# Altium integrated library Altera Arria V GZ.IntLib: 32 symbols (part 30 of 36)
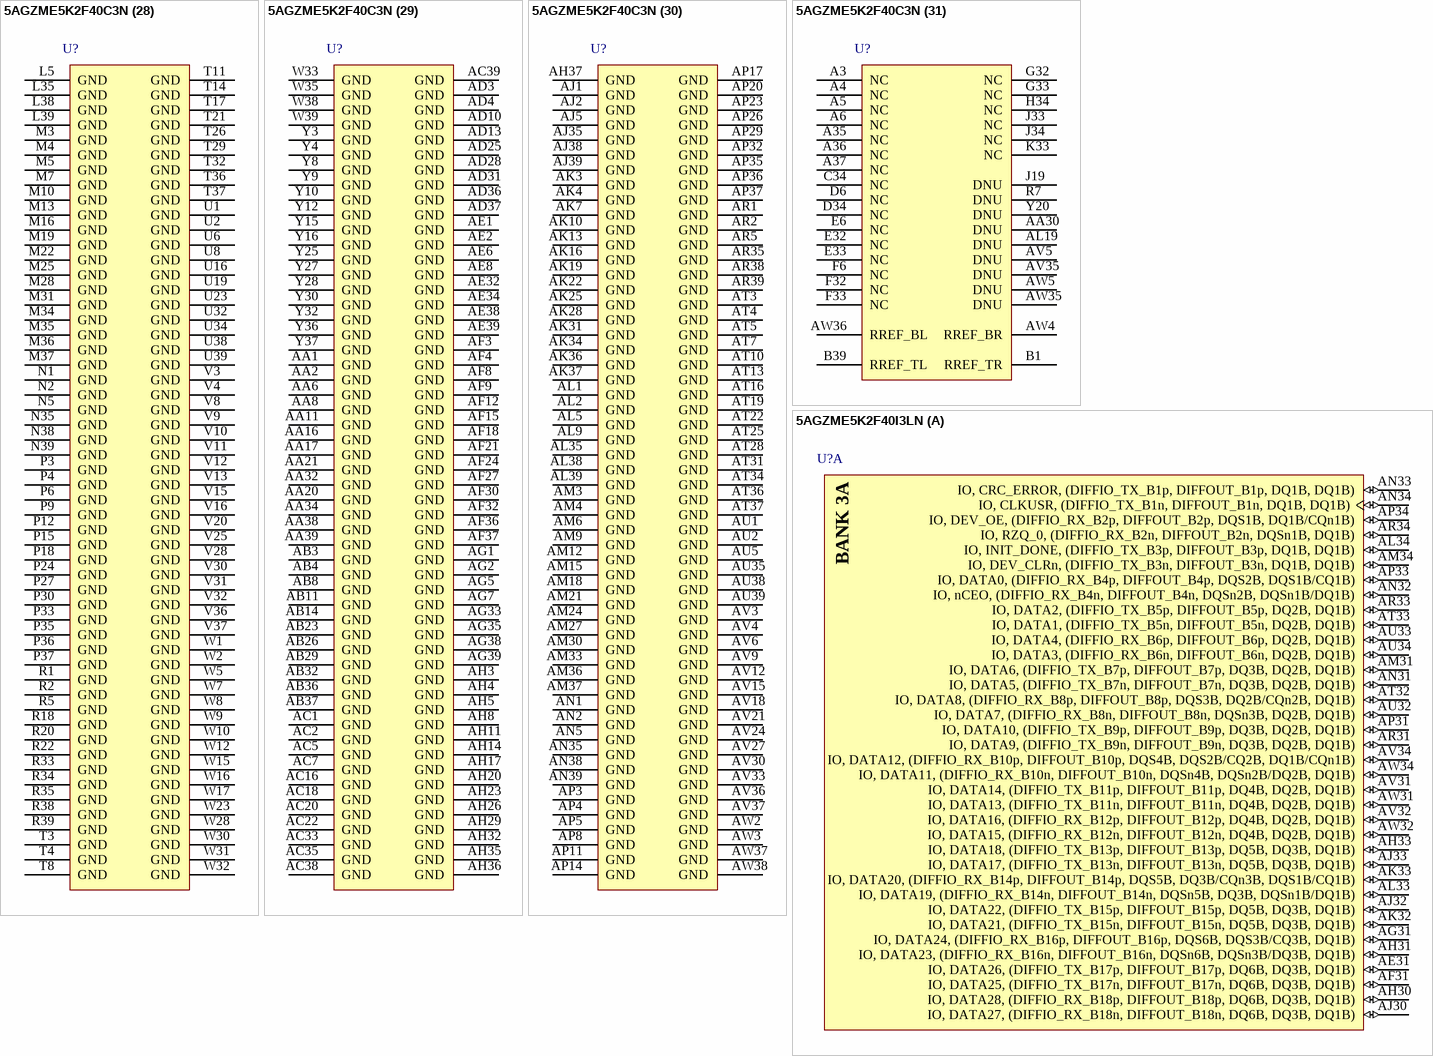
[diagram p226: symbols 5AGZME5K2F40C3N to 5AGZME5K2F40I3LN]

## 5AGZME5K2F40C3N (continued)
part P pins: A20 IO, (DIFFIO_TX_T132n, DIFFOUT_T132n, DQ44T, DQ16T, DQ8T, DQ4T) (io), A22 IO, (DIFFIO_RX_T143n, DIFFOUT_T143n, DQSn48T, DQ18T, DQ9T, DQ4T) (io), A23 IO, (DIFFIO_TX_T144n, DIFFOUT_T144n, DQ48T, DQ18T, DQ9T, DQ4T) (io), B20 IO, (DIFFIO_TX_T132p, DIFFOUT_T132p, DQ44T, DQ16T, DQ8T, DQ4T) (io), B22 IO, (DIFFIO_RX_T143p, DIFFOUT_T143p, DQS48T, DQ18T/CQn18T, DQ9T, DQ4T) (io), B23 IO, (DIFFIO_TX_T144p, DIFFOUT_T144p, DQ48T, DQ18T, DQ9T, DQ4T) (io), C20 IO, (DIFFIO_TX_T130p, DIFFOUT_T130p, DQ44T, DQ16T, DQ8T, DQ4T) (io), C21 IO, (DIFFIO_TX_T130n, DIFFOUT_T130n, DQ44T, DQ16T, DQ8T, DQ4T) (io), C22 IO, (DIFFIO_TX_T142p, DIFFOUT_T142p, DQ48T, DQ18T, DQ9T, DQ4T) (io), D21 IO, (DIFFIO_RX_T131n, DIFFOUT_T131n, DQSn44T, DQ16T, DQ8T, DQSn4T/DQ4T) (io), D22 IO, (DIFFIO_TX_T142n, DIFFOUT_T142n, DQ48T, DQ18T, DQ9T, DQ4T) (io), E20 IO, (DIFFIO_RX_T127n, DIFFOUT_T127n, DQ43T, DQ16T, DQ8T, DQ4T) (io), E21 IO, (DIFFIO_RX_T131p, DIFFOUT_T131p, DQS44T, DQ16T/CQn16T, DQ8T, DQS4T/CQ4T) (io), E23 IO, (DIFFIO_RX_T141n, DIFFOUT_T141n, DQSn47T, DQSn18T/DQ18T, DQ9T, DQ4T) (io), F20 IO, (DIFFIO_RX_T127p, DIFFOUT_T127p, DQ43T, DQ16T, DQ8T, DQ4T) (io), F21 IO, (DIFFIO_RX_T129n, DIFFOUT_T129n, DQSn43T, DQSn16T/DQ16T, DQ8T, DQ4T) (io), F23 IO, (DIFFIO_RX_T141p, DIFFOUT_T141p, DQS47T, DQS18T/CQ18T, DQ9T/CQn9T, DQ4T) (io), G20 IO, (DIFFIO_TX_T128n, DIFFOUT_T128n, DQ43T, DQ16T, DQ8T, DQ4T) (io), G21 IO, (DIFFIO_RX_T129p, DIFFOUT_T129p, DQS43T, DQS16T/CQ16T, DQ8T/CQn8T, DQ4T) (io), G22 IO, (DIFFIO_TX_T140n, DIFFOUT_T140n, DQ47T, DQ18T, DQ9T, DQ4T) (io), G23 IO, (DIFFIO_RX_T139n, DIFFOUT_T139n, DQ47T, DQ18T, DQ9T, DQ4T) (io), H20 IO, (DIFFIO_TX_T128p, DIFFOUT_T128p, DQ43T, DQ16T, DQ8T, DQ4T) (io), H22 IO, (DIFFIO_TX_T140p, DIFFOUT_T140p, DQ47T, DQ18T, DQ9T, DQ4T) (io), H23 IO, (DIFFIO_RX_T139p, DIFFOUT_T139p, DQ47T, DQ18T, DQ9T, DQ4T) (io), J21 IO, (DIFFIO_RX_T121n, DIFFOUT_T121n, DQ41T, DQ15T, DQ8T, DQ4T) (io), J22 IO, (DIFFIO_RX_T123n, DIFFOUT_T123n, DQSn41T, DQSn15T/DQ15T, DQ8T, DQ4T) (io), J23 IO, CLK16p, (DIFFIO_RX_T135p, DIFFOUT_T135p, DQS45T, DQS17T/CQ17T, DQ9T, DQ4T/CQn4T) (io), J24 IO, CLK16n, (DIFFIO_RX_T135n, DIFFOUT_T135n, DQSn45T, DQSn17T/DQ17T, DQ9T, DQ4T) (io), K21 IO, (DIFFIO_RX_T121p, DIFFOUT_T121p, DQ41T, DQ15T, DQ8T, DQ4T) (io), K22 IO, (DIFFIO_RX_T123p, DIFFOUT_T123p, DQS41T, DQS15T/CQ15T, DQ8T, DQ4T) (io), K24 IO, (DIFFIO_TX_T134n, DIFFOUT_T134n, DQ45T, DQ17T, DQ9T, DQ4T) (io), L20 IO, (DIFFIO_TX_T122n, DIFFOUT_T122n, DQ41T, DQ15T, DQ8T, DQ4T) (io), L21 IO, (DIFFIO_TX_T124n, DIFFOUT_T124n, DQ42T, DQ15T, DQ8T, DQ4T) (io), L23 IO, CLK17n, (DIFFIO_RX_T133n, DIFFOUT_T133n, DQ45T, DQ17T, DQ9T, DQ4T) (io), L24 IO, (DIFFIO_TX_T134p, DIFFOUT_T134p, DQ45T, DQ17T, DQ9T, DQ4T) (io), M20 IO, (DIFFIO_TX_T122p, DIFFOUT_T122p, DQ41T, DQ15T, DQ8T, DQ4T) (io), M21 IO, (DIFFIO_TX_T124p, DIFFOUT_T124p, DQ42T, DQ15T, DQ8T, DQ4T) (io), M23 IO, CLK17p, (DIFFIO_RX_T133p, DIFFOUT_T133p, DQ45T, DQ17T, DQ9T, DQ4T) (io), M24 IO, (DIFFIO_RX_T137n, DIFFOUT_T137n, DQSn46T, DQ17T, DQSn9T/DQ9T, DQ4T) (io), N20 IO, (DIFFIO_TX_T126p, DIFFOUT_T126p, DQ42T, DQ15T, DQ8T, DQ4T) (io), N21 IO, (DIFFIO_TX_T126n, DIFFOUT_T126n, DQ42T, DQ15T, DQ8T, DQ4T) (io), N22 IO, (DIFFIO_RX_T125n, DIFFOUT_T125n, DQSn42T, DQ15T, DQSn8T/DQ8T, DQ4T) (io), N23 IO, (DIFFIO_TX_T136n, DIFFOUT_T136n, DQ46T, DQ17T, DQ9T, DQ4T) (io), N24 IO, (DIFFIO_RX_T137p, DIFFOUT_T137p, DQS46T, DQ17T/CQn17T, DQS9T/CQ9T, DQ4T) (io), P22 IO, (DIFFIO_RX_T125p, DIFFOUT_T125p, DQS42T, DQ15T/CQn15T, DQS8T/CQ8T, DQ4T) (io), P23 IO, (DIFFIO_TX_T136p, DIFFOUT_T136p, DQ46T, DQ17T, DQ9T, DQ4T) (io), R24 IO, (DIFFIO_TX_T138n, DIFFOUT_T138n, DQ46T, DQ17T, DQ9T, DQ4T) (io), T24 IO, (DIFFIO_TX_T138p, DIFFOUT_T138p, DQ46T, DQ17T, DQ9T, DQ4T) (io)
part Q pins: AD33 REFCLK1Lp (in), AD34 REFCLK1Ln (in), AF34 REFCLK0Lp (in), AF35 REFCLK0Ln (in), AG36 GXB_TX_L5p (out), AG37 GXB_TX_L5n (out), AH38 GXB_RX_L5p, GXB_REFCLK_L5p (in), AH39 GXB_RX_L5n, GXB_REFCLK_L5n (in), AJ36 GXB_TX_L4p (out), AJ37 GXB_TX_L4n (out), AK38 GXB_RX_L4p, GXB_REFCLK_L4p (in), AK39 GXB_RX_L4n, GXB_REFCLK_L4n (in), AL36 GXB_TX_L3p (out), AL37 GXB_TX_L3n (out), AM38 GXB_RX_L3p, GXB_REFCLK_L3p (in), AM39 GXB_RX_L3n, GXB_REFCLK_L3n (in), AN36 GXB_TX_L2p (out), AN37 GXB_TX_L2n (out), AP38 GXB_RX_L2p, GXB_REFCLK_L2p (in), AP39 GXB_RX_L2n, GXB_REFCLK_L2n (in), AR36 GXB_TX_L1p (out), AR37 GXB_TX_L1n (out), AT38 GXB_RX_L1p, GXB_REFCLK_L1p (in), AT39 GXB_RX_L1n, GXB_REFCLK_L1n (in), AU36 GXB_TX_L0p (out), AU37 GXB_TX_L0n (out), AV38 GXB_RX_L0p, GXB_REFCLK_L0p (in), AV39 GXB_RX_L0n, GXB_REFCLK_L0n (in)
part R pins: AA36 GXB_TX_L8p (out), AA37 GXB_TX_L8n (out), AB34 REFCLK2Lp (in), AB35 REFCLK2Ln (in), AB38 GXB_RX_L8p, GXB_REFCLK_L8p (in), AB39 GXB_RX_L8n, GXB_REFCLK_L8n (in), AC36 GXB_TX_L7p (out), AC37 GXB_TX_L7n (out), AD38 GXB_RX_L7p, GXB_REFCLK_L7p (in), AD39 GXB_RX_L7n, GXB_REFCLK_L7n (in), AE36 GXB_TX_L6p (out), AE37 GXB_TX_L6n (out), AF38 GXB_RX_L6p, GXB_REFCLK_L6p (in), AF39 GXB_RX_L6n, GXB_REFCLK_L6n (in), R36 GXB_TX_L11p (out), R37 GXB_TX_L11n (out), T38 GXB_RX_L11p, GXB_REFCLK_L11p (in), T39 GXB_RX_L11n, GXB_REFCLK_L11n (in), U36 GXB_TX_L10p (out), U37 GXB_TX_L10n (out), V38 GXB_RX_L10p, GXB_REFCLK_L10p (in), V39 GXB_RX_L10n, GXB_REFCLK_L10n (in), W36 GXB_TX_L9p (out), W37 GXB_TX_L9n (out), Y33 REFCLK3Lp (in), Y34 REFCLK3Ln (in), Y38 GXB_RX_L9p, GXB_REFCLK_L9p (in), Y39 GXB_RX_L9n, GXB_REFCLK_L9n (in)
part S pins: C36 GXB_TX_L17p (out), C37 GXB_TX_L17n (out), D38 GXB_RX_L17p, GXB_REFCLK_L17p (in), D39 GXB_RX_L17n, GXB_REFCLK_L17n (in), E36 GXB_TX_L16p (out), E37 GXB_TX_L16n (out), F38 GXB_RX_L16p, GXB_REFCLK_L16p (in), F39 GXB_RX_L16n, GXB_REFCLK_L16n (in), G36 GXB_TX_L15p (out), G37 GXB_TX_L15n (out), H38 GXB_RX_L15p, GXB_REFCLK_L15p (in), H39 GXB_RX_L15n, GXB_REFCLK_L15n (in), J36 GXB_TX_L14p (out), J37 GXB_TX_L14n (out), K38 GXB_RX_L14p, GXB_REFCLK_L14p (in), K39 GXB_RX_L14n, GXB_REFCLK_L14n (in), L36 GXB_TX_L13p (out), L37 GXB_TX_L13n (out), M38 GXB_RX_L13p, GXB_REFCLK_L13p (in), M39 GXB_RX_L13n, GXB_REFCLK_L13n (in), N36 GXB_TX_L12p (out), N37 GXB_TX_L12n (out), P38 GXB_RX_L12p, GXB_REFCLK_L12p (in), P39 GXB_RX_L12n, GXB_REFCLK_L12n (in), T33 REFCLK5Lp (in), T34 REFCLK5Ln (in), V34 REFCLK4Lp (in), V35 REFCLK4Ln (in)
part T pins: AD6 REFCLK1Rn (in), AD7 REFCLK1Rp (in), AF5 REFCLK0Rn (in), AF6 REFCLK0Rp (in), AG3 GXB_TX_R5n (out), AG4 GXB_TX_R5p (out), AH1 GXB_RX_R5n, GXB_REFCLK_R5n (in), AH2 GXB_RX_R5p, GXB_REFCLK_R5p (in), AJ3 GXB_TX_R4n (out), AJ4 GXB_TX_R4p (out), AK1 GXB_RX_R4n, GXB_REFCLK_R4n (in), AK2 GXB_RX_R4p, GXB_REFCLK_R4p (in), AL3 GXB_TX_R3n (out), AL4 GXB_TX_R3p (out), AM1 GXB_RX_R3n, GXB_REFCLK_R3n (in), AM2 GXB_RX_R3p, GXB_REFCLK_R3p (in), AN3 GXB_TX_R2n (out), AN4 GXB_TX_R2p (out), AP1 GXB_RX_R2n, GXB_REFCLK_R2n (in), AP2 GXB_RX_R2p, GXB_REFCLK_R2p (in), AR3 GXB_TX_R1n (out), AR4 GXB_TX_R1p (out), AT1 GXB_RX_R1n, GXB_REFCLK_R1n (in), AT2 GXB_RX_R1p, GXB_REFCLK_R1p (in), AU3 GXB_TX_R0n (out), AU4 GXB_TX_R0p (out), AV1 GXB_RX_R0n, GXB_REFCLK_R0n (in), AV2 GXB_RX_R0p, GXB_REFCLK_R0p (in)
part U pins: AA3 GXB_TX_R8n (out), AA4 GXB_TX_R8p (out), AB1 GXB_RX_R8n, GXB_REFCLK_R8n (in), AB2 GXB_RX_R8p, GXB_REFCLK_R8p (in), AB5 REFCLK2Rn (in), AB6 REFCLK2Rp (in), AC3 GXB_TX_R7n (out), AC4 GXB_TX_R7p (out), AD1 GXB_RX_R7n, GXB_REFCLK_R7n (in), AD2 GXB_RX_R7p, GXB_REFCLK_R7p (in), AE3 GXB_TX_R6n (out), AE4 GXB_TX_R6p (out), AF1 GXB_RX_R6n, GXB_REFCLK_R6n (in), AF2 GXB_RX_R6p, GXB_REFCLK_R6p (in), R3 GXB_TX_R11n (out), R4 GXB_TX_R11p (out), T1 GXB_RX_R11n, GXB_REFCLK_R11n (in), T2 GXB_RX_R11p, GXB_REFCLK_R11p (in), U3 GXB_TX_R10n (out), U4 GXB_TX_R10p (out), V1 GXB_RX_R10n, GXB_REFCLK_R10n (in), V2 GXB_RX_R10p, GXB_REFCLK_R10p (in), W3 GXB_TX_R9n (out), W4 GXB_TX_R9p (out), Y1 GXB_RX_R9n, GXB_REFCLK_R9n (in), Y2 GXB_RX_R9p, GXB_REFCLK_R9p (in), Y6 REFCLK3Rn (in), Y7 REFCLK3Rp (in)
part V pins: C3 GXB_TX_R17n (out), C4 GXB_TX_R17p (out), D1 GXB_RX_R17n, GXB_REFCLK_R17n (in), D2 GXB_RX_R17p, GXB_REFCLK_R17p (in), E3 GXB_TX_R16n (out), E4 GXB_TX_R16p (out), F1 GXB_RX_R16n, GXB_REFCLK_R16n (in), F2 GXB_RX_R16p, GXB_REFCLK_R16p (in), G3 GXB_TX_R15n (out), G4 GXB_TX_R15p (out), H1 GXB_RX_R15n, GXB_REFCLK_R15n (in), H2 GXB_RX_R15p, GXB_REFCLK_R15p (in), J3 GXB_TX_R14n (out), J4 GXB_TX_R14p (out), K1 GXB_RX_R14n, GXB_REFCLK_R14n (in), K2 GXB_RX_R14p, GXB_REFCLK_R14p (in), L3 GXB_TX_R13n (out), L4 GXB_TX_R13p (out), M1 GXB_RX_R13n, GXB_REFCLK_R13n (in), M2 GXB_RX_R13p, GXB_REFCLK_R13p (in), N3 GXB_TX_R12n (out), N4 GXB_TX_R12p (out), P1 GXB_RX_R12n, GXB_REFCLK_R12n (in), P2 GXB_RX_R12p, GXB_REFCLK_R12p (in), T6 REFCLK5Rn (in), T7 REFCLK5Rp (in), V5 REFCLK4Rn (in), V6 REFCLK4Rp (in)
part W pins: AA9 MSEL0 (in), AA10 MSEL1 (in), AA31 TCK (in), AB31 AS_DATA0, ASDO (io), AC8 nCE (in), AC31 DCLK (io), AC32 AS_DATA2 (io), AD8 MSEL2 (in), AD32 nCSO (out), AG8 MSEL3 (in), AG32 AS_DATA3 (io), AH6 CONF_DONE (io), AH7 MSEL4 (in), AH34 TDO (out), AJ34 TDI (in), AK5 nIO_PULLUP (in), AK35 nCONFIG (in), AM5 nSTATUS (io), AM35 ~{TRST} (in), AT35 TMS (in), P5 TEMPDIODEn (in), R6 TEMPDIODEp (in), Y31 AS_DATA1 (io)
part X pins: A9 VCCIO7B (power), A12 VCCIO7C (power), A15 VCCIO7C (power), A18 VCCIO7D (power), A21 VCCIO8D (power), A24 VCCIO8C (power), A27 VCCIO8C (power), A30 VCCIO8B (power), A33 VCCIO8A (power), AA18 VCC (power), AA19 VCC (power), AA22 VCC (power), AA23 VCC (power), AB17 VCC (power), AB18 VCC (power), AB19 VCC (power), AB20 VCC (power), AB21 VCC (power), AB22 VCC (power), AC17 VCC (power), AC19 VCC (power), AC21 VCC (power), AC23 VCC (power), AU13 VCCIO4C (power), AU19 VCCIO4D (power), AU22 VCCIO3D (power), AU28 VCCIO3B (power), AU31 VCCIO3A (power), AW6 VCCIO4A (power), AW9 VCCIO4B (power), AW12 VCCIO4B (power), AW15 VCCIO4C (power), AW18 VCCIO4D (power), AW21 VCCIO3D (power), AW24 VCCIO3C (power), AW27 VCCIO3C (power), AW30 VCCIO3B (power), AW33 VCCIO3A (power), C6 VCCIO7A (power), C11 VCCIO7B (power), C17 VCCIO7D (power), C23 VCCIO8D (power), C29 VCCIO8B (power), C32 VCCIO8A (power), R17 VCC (power), R19 VCC (power), R21 VCC (power), R23 VCC (power), T18 VCC (power), T19 VCC (power), T20 VCC (power), T22 VCC (power), T23 VCC (power), U17 VCC (power), U18 VCC (power), U20 VCC (power), U21 VCC (power), U22 VCC (power), V17 VCC (power), V18 VCC (power), V19 VCC (power), V21 VCC (power), V22 VCC (power), V23 VCC (power), W18 VCC (power), W19 VCC (power), W20 VCC (power), W21 VCC (power), W22 VCC (power), Y17 VCC (power), Y18 VCC (power), Y19 VCC (power), Y21 VCC (power), Y22 VCC (power), Y23 VCC (power)
part Y pins: AC11 VCCD_FPLL (power), AC29 VCCD_FPLL (power), AD11 VCCA_FPLL (power), AD19 VCCPT (power), AD29 VCCA_FPLL (power), AE13 VCCPT (power), AE28 VCCPT (power), AF20 VCCD_FPLL (power), AG11 VCC_AUX (power), AG20 VCCA_FPLL (power), AG29 VCC_AUX (power), AJ8 VREFB4AN0 (power), AJ9 VCCPGM (power), AJ11 VREFB4BN0 (power), AJ14 VREFB4CN0 (power), AJ16 VREFB4DN0 (power), AJ23 VREFB3DN0 (power), AJ25 VREFB3CN0 (power), AJ28 VREFB3BN0 (power), AJ31 VREFB3AN0 (power), AK8 VCCA_FPLL (power), AK9 VCCBAT (power), AK20 VCC_AUX (power), AL8 VCCD_FPLL (power), AL31 VCCPGM (power), AL32 VCCA_FPLL (power), AM32 VCCD_FPLL (power), AR10 VCCPD4 (power), AR13 VCCPD4 (power), AR16 VCCPD4 (power), AR23 VCCPD3CD (power), AR26 VCCPD3CD (power), AR29 VCCPD3AB (power), AR32 VCCPD3AB (power), E10 VCCPD7 (power), E13 VCCPD7 (power), E16 VCCPD7 (power), E22 VCCPD8 (power), E26 VCCPD8 (power), E29 VCCPD8 (power), H8 VCCD_FPLL (power), H32 VCCD_FPLL (power), J8 VCCA_FPLL (power), J20 VCC_AUX (power), J32 VCCA_FPLL (power), L7 VREFB7AN0 (power), L10 VREFB7BN0 (power), L14 VREFB7CN0 (power), L17 VREFB7DN0 (power), L22 VREFB8DN0 (power), L25 VREFB8CN0 (power), L29 VREFB8BN0 (power), L32 VREFB8AN0 (power), N11 VCC_AUX (power), N29 VCC_AUX (power), P19 VCCPT (power), P20 VCCA_FPLL (power), P21 VCCD_FPLL (power), R13 VCCPT (power), R28 VCCPT (power), W11 VCCA_FPLL (power), W29 VCCA_FPLL (power), Y11 VCCD_FPLL (power), Y29 VCCD_FPLL (power)
part Z pins: AA5 VCCH_GXBR1 (power), AA7 VCCT_GXBR1 (power), AA24 VCCHIP_L (power), AA33 VCCT_GXBL1 (power), AA35 VCCH_GXBL1 (power), AB7 VCCT_GXBR1 (power), AB33 VCCT_GXBL1 (power), AC6 VCCR_GXBR1 (power), AC34 VCCR_GXBL1 (power), AD5 VCCA_GXBR0 (power), AD35 VCCA_GXBL0 (power), AE5 VCCH_GXBR0 (power), AE7 VCCT_GXBR0 (power), AE33 VCCT_GXBL0 (power), AE35 VCCH_GXBL0 (power), AF7 VCCT_GXBR0 (power), AF33 VCCT_GXBL0 (power), AG6 VCCR_GXBR0 (power), AG34 VCCR_GXBL0 (power), T5 VCCA_GXBR2 (power), T35 VCCA_GXBL2 (power), U5 VCCH_GXBR2 (power), U7 VCCT_GXBR2 (power), U24 VCCHIP_L (power), U33 VCCT_GXBL2 (power), U35 VCCH_GXBL2 (power), V7 VCCT_GXBR2 (power), V14 VCCHSSI_R (power), V24 VCCHIP_L (power), V26 VCCHSSI_L (power), V27 VCCHSSI_L (power), V33 VCCT_GXBL2 (power), W6 VCCR_GXBR2 (power), W13 VCCHSSI_R (power), W14 VCCHSSI_R (power), W24 VCCHIP_L (power), W25 VCCHIP_L (power), W26 VCCHSSI_L (power), W27 VCCHSSI_L (power), W34 VCCR_GXBL2 (power), Y5 VCCA_GXBR1 (power), Y13 VCCHSSI_R (power), Y14 VCCHSSI_R (power), Y24 VCCHIP_L (power), Y26 VCCHSSI_L (power), Y35 VCCA_GXBL1 (power)
part 27 pins: A2 GND (power), A38 GND (power), B2 GND (power), B3 GND (power), B4 GND (power), B5 GND (power), B6 GND (power), B9 GND (power), B12 GND (power), B15 GND (power), B18 GND (power), B21 GND (power), B24 GND (power), B27 GND (power), B30 GND (power), B33 GND (power), B35 GND (power), B36 GND (power), B37 GND (power), B38 GND (power), C1 GND (power), C2 GND (power), C5 GND (power), C35 GND (power), C38 GND (power), C39 GND (power), D3 GND (power), D4 GND (power), D5 GND (power), D8 GND (power), D11 GND (power), D14 GND (power), D17 GND (power), D20 GND (power), D23 GND (power), D26 GND (power), D29 GND (power), D32 GND (power), D35 GND (power), D36 GND (power), D37 GND (power), E1 GND (power), E2 GND (power), E5 GND (power), E35 GND (power), E38 GND (power), E39 GND (power), F3 GND (power), F4 GND (power), F5 GND (power), F7 GND (power), F10 GND (power), F13 GND (power), F16 GND (power), F19 GND (power), F22 GND (power), F25 GND (power), F28 GND (power), F31 GND (power), F34 GND (power), F35 GND (power), F36 GND (power), F37 GND (power), G1 GND (power), G2 GND (power), G5 GND (power), G35 GND (power), G38 GND (power), G39 GND (power), H3 GND (power), H4 GND (power), H5 GND (power), H6 GND (power), H9 GND (power), H12 GND (power), H15 GND (power), H18 GND (power), H21 GND (power), H24 GND (power), H27 GND (power), H30 GND (power), H33 GND (power), H35 GND (power), H36 GND (power), H37 GND (power), J1 GND (power), J2 GND (power), J5 GND (power), J35 GND (power), J38 GND (power), J39 GND (power), K3 GND (power), K4 GND (power), K5 GND (power), K8 GND (power), K11 GND (power), K14 GND (power), K17 GND (power), K20 GND (power), K23 GND (power), K26 GND (power), K29 GND (power), K32 GND (power), K35 GND (power), K36 GND (power), K37 GND (power), L1 GND (power), L2 GND (power)
part 28 pins: L5 GND (power), L35 GND (power), L38 GND (power), L39 GND (power), M3 GND (power), M4 GND (power), M5 GND (power), M7 GND (power), M10 GND (power), M13 GND (power), M16 GND (power), M19 GND (power), M22 GND (power), M25 GND (power), M28 GND (power), M31 GND (power), M34 GND (power), M35 GND (power), M36 GND (power), M37 GND (power), N1 GND (power), N2 GND (power), N5 GND (power), N35 GND (power), N38 GND (power), N39 GND (power), P3 GND (power), P4 GND (power), P6 GND (power), P9 GND (power), P12 GND (power), P15 GND (power), P18 GND (power), P24 GND (power), P27 GND (power), P30 GND (power), P33 GND (power), P35 GND (power), P36 GND (power), P37 GND (power), R1 GND (power), R2 GND (power), R5 GND (power), R18 GND (power), R20 GND (power), R22 GND (power), R33 GND (power), R34 GND (power), R35 GND (power), R38 GND (power), R39 GND (power), T3 GND (power), T4 GND (power), T8 GND (power), T11 GND (power), T14 GND (power), T17 GND (power), T21 GND (power), T26 GND (power), T29 GND (power), T32 GND (power), T36 GND (power), T37 GND (power), U1 GND (power), U2 GND (power), U6 GND (power), U8 GND (power), U16 GND (power), U19 GND (power), U23 GND (power), U32 GND (power), U34 GND (power), U38 GND (power), U39 GND (power), V3 GND (power), V4 GND (power), V8 GND (power), V9 GND (power), V10 GND (power), V11 GND (power), V12 GND (power), V13 GND (power), V15 GND (power), V16 GND (power), V20 GND (power), V25 GND (power), V28 GND (power), V30 GND (power), V31 GND (power), V32 GND (power), V36 GND (power), V37 GND (power), W1 GND (power), W2 GND (power), W5 GND (power), W7 GND (power), W8 GND (power), W9 GND (power), W10 GND (power), W12 GND (power), W15 GND (power), W16 GND (power), W17 GND (power), W23 GND (power), W28 GND (power), W30 GND (power), W31 GND (power), W32 GND (power)
part 29 pins: AA1 GND (power), AA2 GND (power), AA6 GND (power), AA8 GND (power), AA11 GND (power), AA16 GND (power), AA17 GND (power), AA20 GND (power), AA21 GND (power), AA32 GND (power), AA34 GND (power), AA38 GND (power), AA39 GND (power), AB3 GND (power), AB4 GND (power), AB8 GND (power), AB11 GND (power), AB14 GND (power), AB23 GND (power), AB26 GND (power), AB29 GND (power), AB32 GND (power), AB36 GND (power), AB37 GND (power), AC1 GND (power), AC2 GND (power), AC5 GND (power), AC7 GND (power), AC16 GND (power), AC18 GND (power), AC20 GND (power), AC22 GND (power), AC33 GND (power), AC35 GND (power), AC38 GND (power), AC39 GND (power), AD3 GND (power), AD4 GND (power), AD10 GND (power), AD13 GND (power), AD25 GND (power), AD28 GND (power), AD31 GND (power), AD36 GND (power), AD37 GND (power), AE1 GND (power), AE2 GND (power), AE6 GND (power), AE8 GND (power), AE32 GND (power), AE34 GND (power), AE38 GND (power), AE39 GND (power), AF3 GND (power), AF4 GND (power), AF8 GND (power), AF9 GND (power), AF12 GND (power), AF15 GND (power), AF18 GND (power), AF21 GND (power), AF24 GND (power), AF27 GND (power), AF30 GND (power), AF32 GND (power), AF36 GND (power), AF37 GND (power), AG1 GND (power), AG2 GND (power), AG5 GND (power), AG7 GND (power), AG33 GND (power), AG35 GND (power), AG38 GND (power), AG39 GND (power), AH3 GND (power), AH4 GND (power), AH5 GND (power), AH8 GND (power), AH11 GND (power), AH14 GND (power), AH17 GND (power), AH20 GND (power), AH23 GND (power), AH26 GND (power), AH29 GND (power), AH32 GND (power), AH35 GND (power), AH36 GND (power), W33 GND (power), W35 GND (power), W38 GND (power), W39 GND (power), Y3 GND (power), Y4 GND (power), Y8 GND (power), Y9 GND (power), Y10 GND (power), Y12 GND (power), Y15 GND (power), Y16 GND (power), Y25 GND (power), Y27 GND (power), Y28 GND (power), Y30 GND (power), Y32 GND (power), Y36 GND (power), Y37 GND (power)
part 30 pins: AH37 GND (power), AJ1 GND (power), AJ2 GND (power), AJ5 GND (power), AJ35 GND (power), AJ38 GND (power), AJ39 GND (power), AK3 GND (power), AK4 GND (power), AK7 GND (power), AK10 GND (power), AK13 GND (power), AK16 GND (power), AK19 GND (power), AK22 GND (power), AK25 GND (power), AK28 GND (power), AK31 GND (power), AK34 GND (power), AK36 GND (power), AK37 GND (power), AL1 GND (power), AL2 GND (power), AL5 GND (power), AL9 GND (power), AL35 GND (power), AL38 GND (power), AL39 GND (power), AM3 GND (power), AM4 GND (power), AM6 GND (power), AM9 GND (power), AM12 GND (power), AM15 GND (power), AM18 GND (power), AM21 GND (power), AM24 GND (power), AM27 GND (power), AM30 GND (power), AM33 GND (power), AM36 GND (power), AM37 GND (power), AN1 GND (power), AN2 GND (power), AN5 GND (power), AN35 GND (power), AN38 GND (power), AN39 GND (power), AP3 GND (power), AP4 GND (power), AP5 GND (power), AP8 GND (power), AP11 GND (power), AP14 GND (power), AP17 GND (power), AP20 GND (power), AP23 GND (power), AP26 GND (power), AP29 GND (power), AP32 GND (power), AP35 GND (power), AP36 GND (power), AP37 GND (power), AR1 GND (power), AR2 GND (power), AR5 GND (power), AR35 GND (power), AR38 GND (power), AR39 GND (power), AT3 GND (power), AT4 GND (power), AT5 GND (power), AT7 GND (power), AT10 GND (power), AT13 GND (power), AT16 GND (power), AT19 GND (power), AT22 GND (power), AT25 GND (power), AT28 GND (power), AT31 GND (power), AT34 GND (power), AT36 GND (power), AT37 GND (power), AU1 GND (power), AU2 GND (power), AU5 GND (power), AU35 GND (power), AU38 GND (power), AU39 GND (power), AV3 GND (power), AV4 GND (power), AV6 GND (power), AV9 GND (power), AV12 GND (power), AV15 GND (power), AV18 GND (power), AV21 GND (power), AV24 GND (power), AV27 GND (power), AV30 GND (power), AV33 GND (power), AV36 GND (power), AV37 GND (power), AW2 GND (power), AW3 GND (power), AW37 GND (power), AW38 GND (power)
part 31 pins: A3 NC, A4 NC, A5 NC, A6 NC, A35 NC, A36 NC, A37 NC, AA30 DNU, AL19 DNU, AV5 DNU, AV35 DNU, AW4 RREF_BR, AW5 DNU, AW35 DNU, AW36 RREF_BL, B1 RREF_TR, B39 RREF_TL, C34 NC, D6 NC, D34 NC, E6 NC, E32 NC, E33 NC, F6 NC, F32 NC, F33 NC, G32 NC, G33 NC, H34 NC, J19 DNU, J33 NC, J34 NC, K33 NC, R7 DNU, Y20 DNU
part A text: BANK 3A
part B text: BANK 3B
part C text: BANK 3C
part D text: BANK 3D
part E text: BANK 4A
part F text: BANK 4B
part G text: BANK 4C
part H text: BANK 4D
part I text: BANK 7A
part J text: BANK 7B
part K text: BANK 7C
part L text: BANK 7D
part M text: BANK 8A
part N text: BANK 8B
part O text: BANK 8C
part P text: BANK 8D

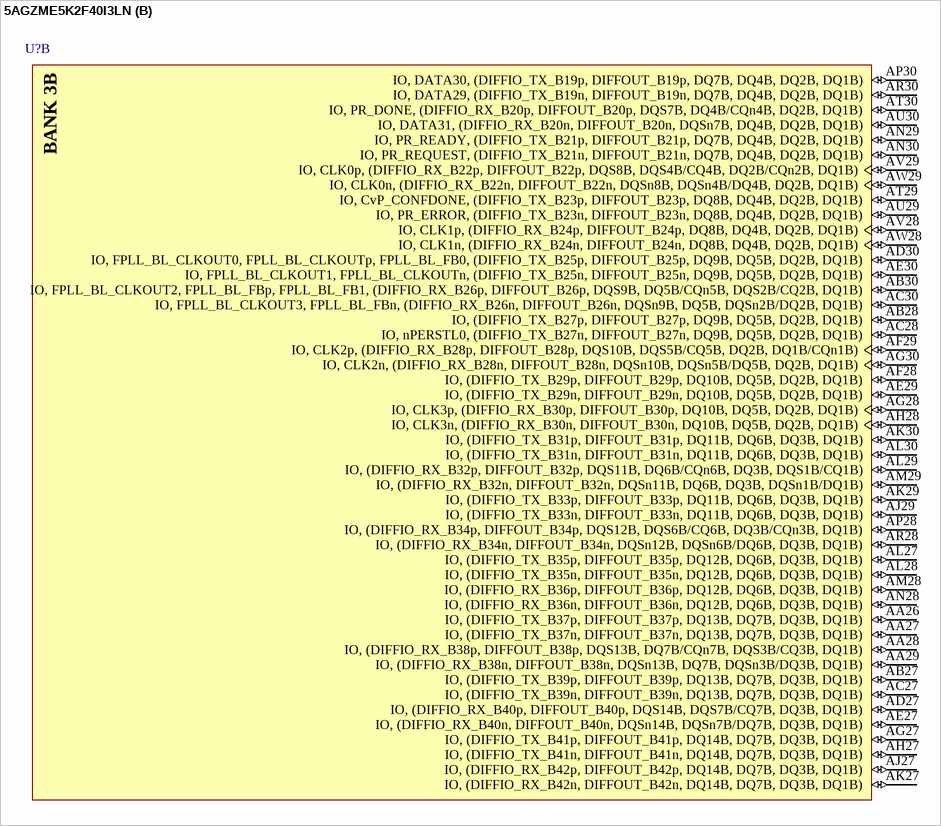
[diagram p108: symbol 5AGZME5K2F40I3LN]

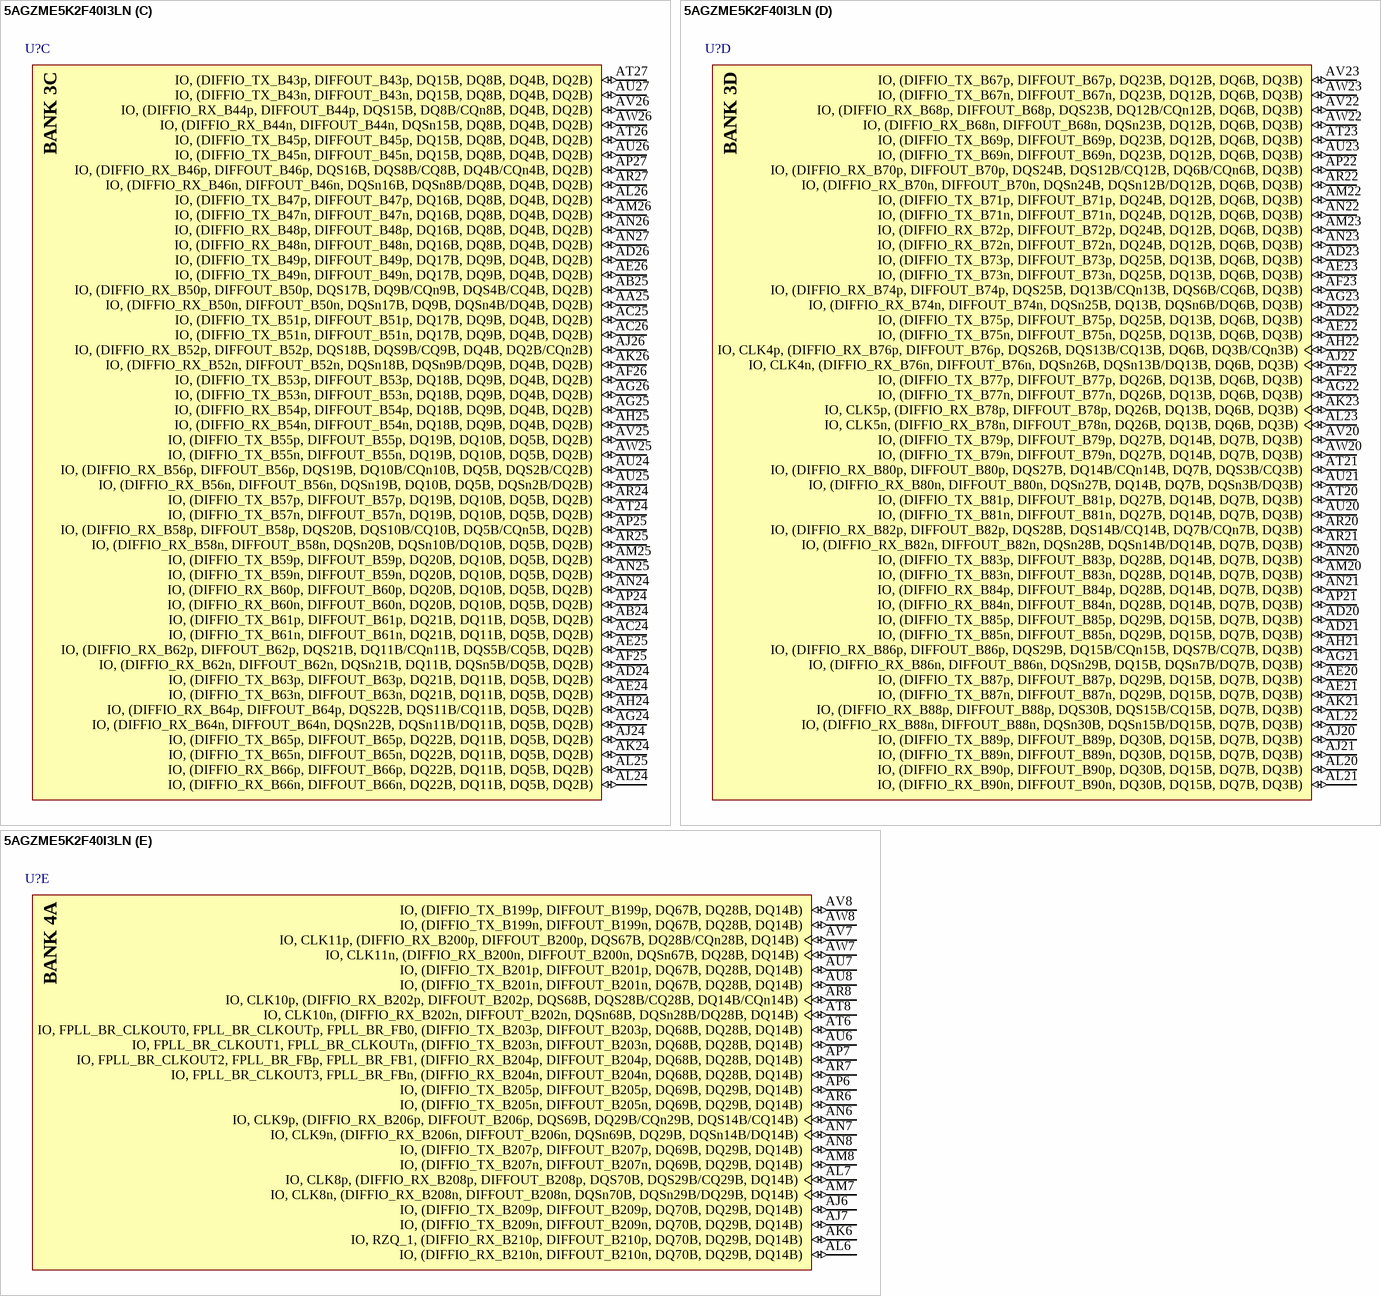
[diagram p109: symbol 5AGZME5K2F40I3LN]

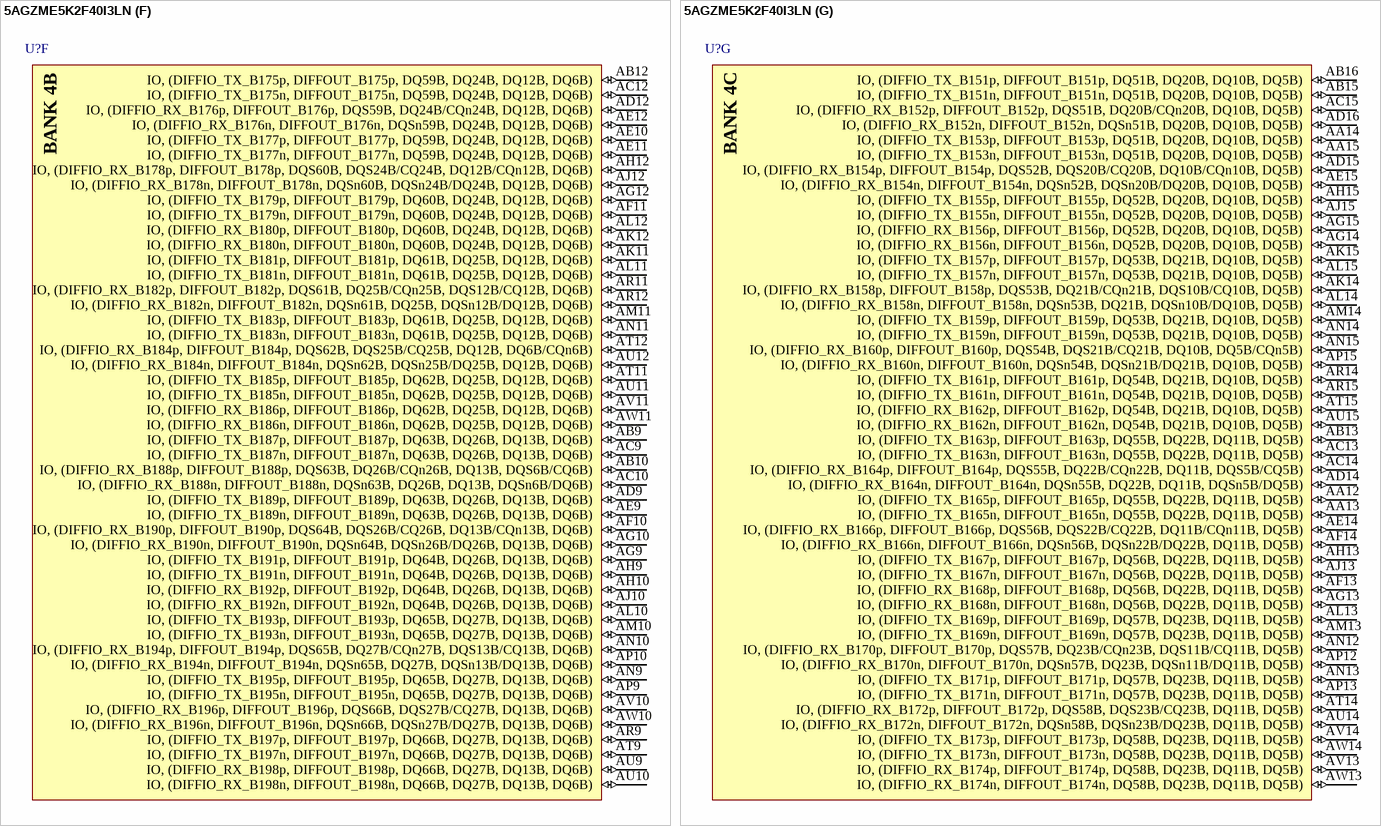
[diagram p110: symbol 5AGZME5K2F40I3LN]

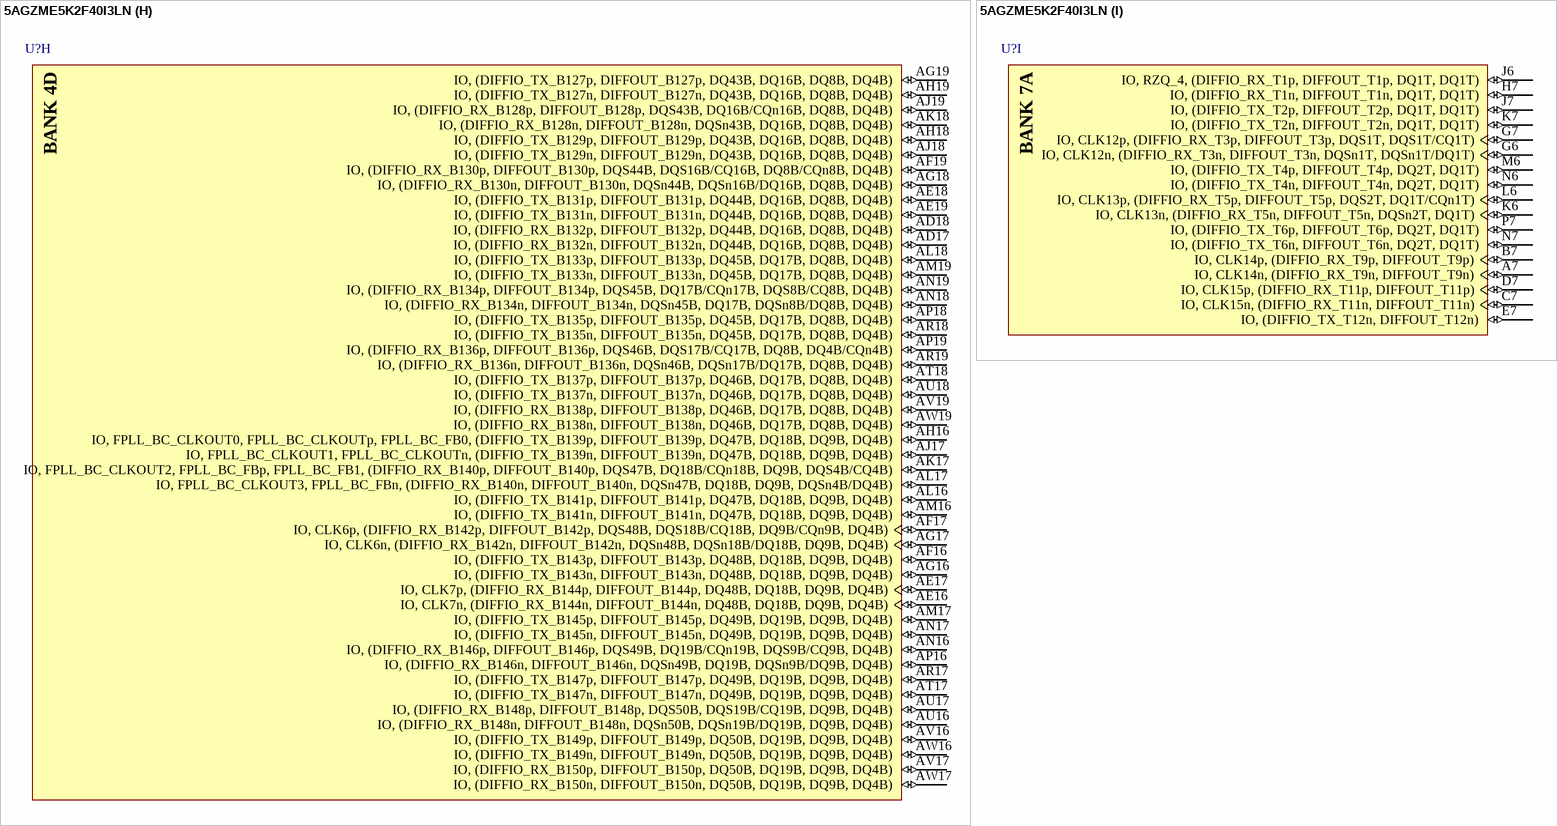
[diagram p111: symbol 5AGZME5K2F40I3LN]

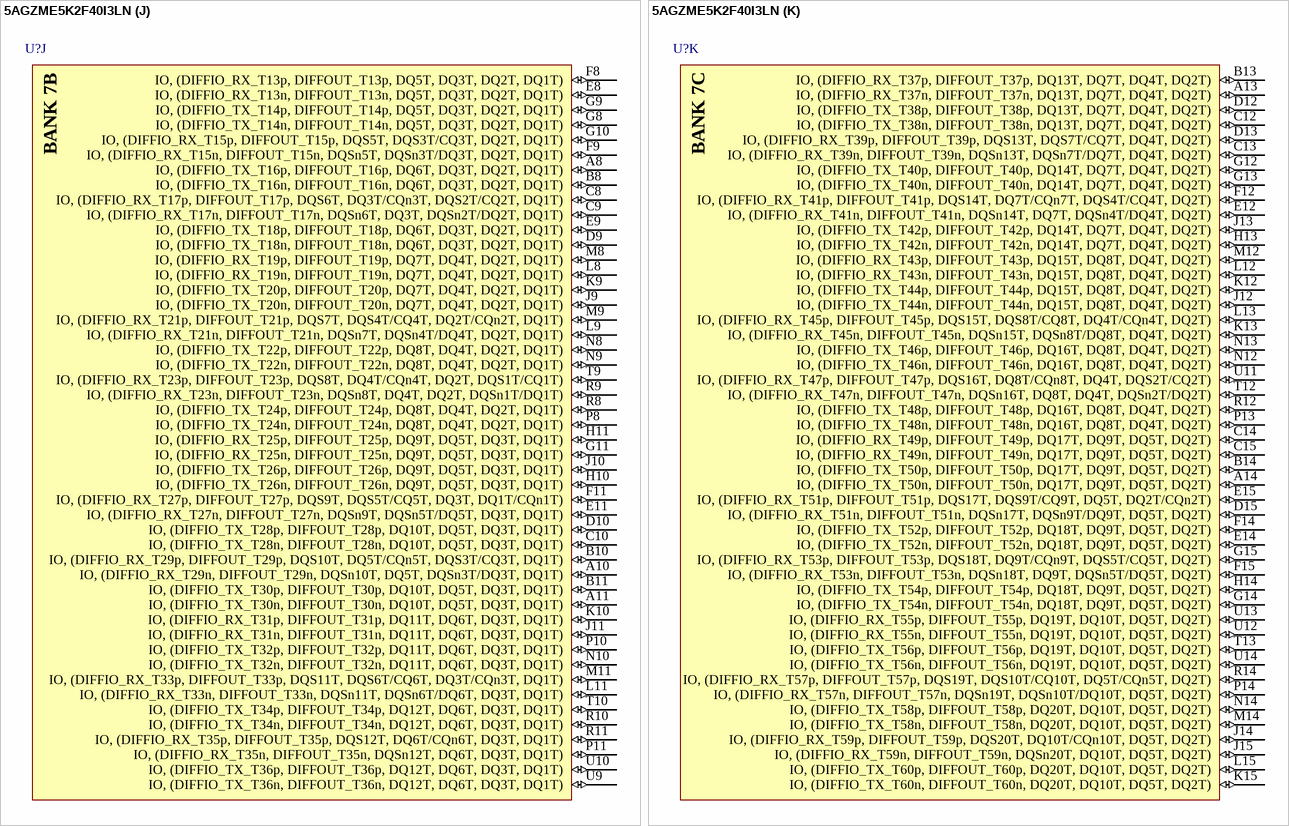
[diagram p112: symbol 5AGZME5K2F40I3LN]

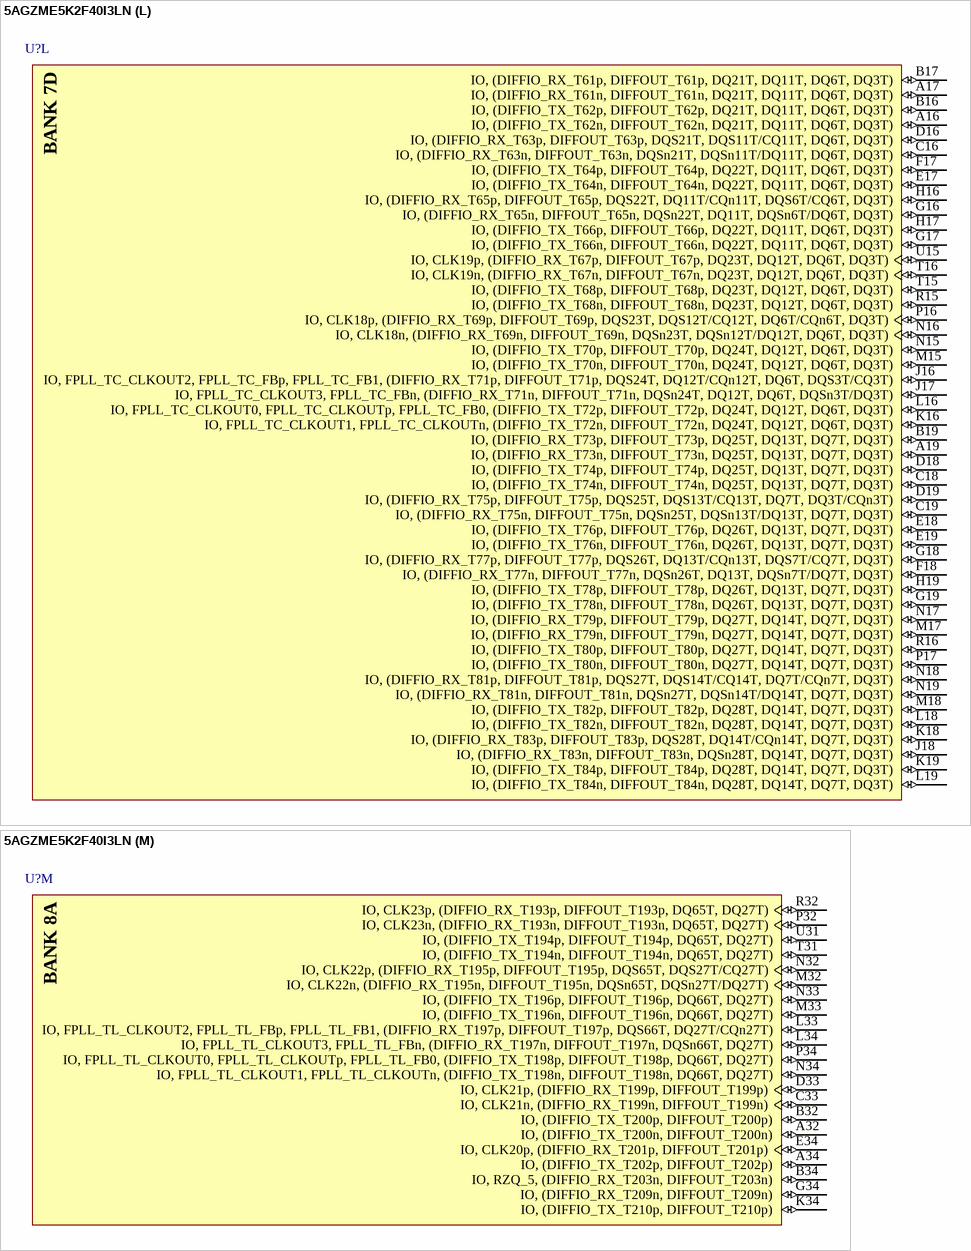
[diagram p113: symbol 5AGZME5K2F40I3LN]

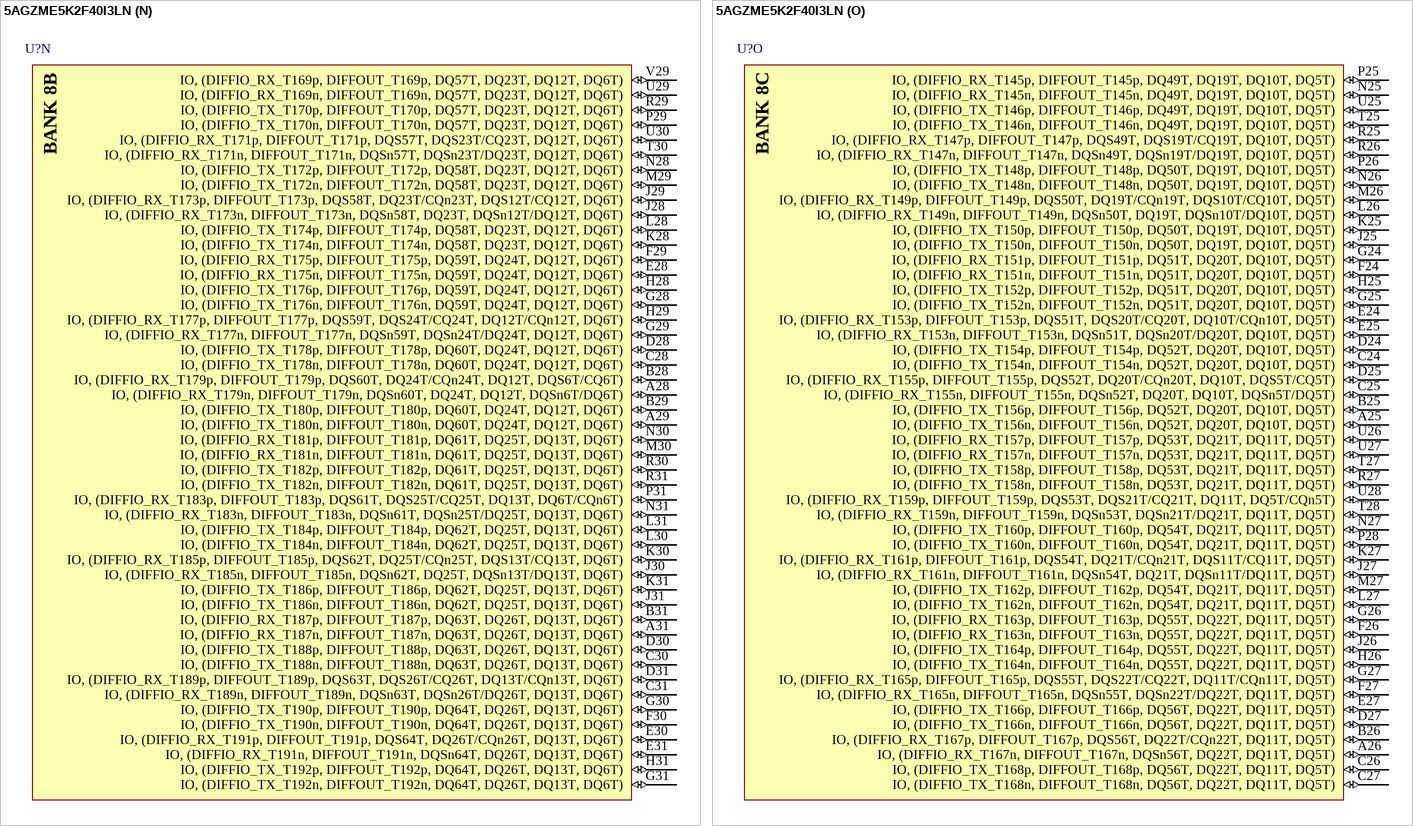
[diagram p114: symbol 5AGZME5K2F40I3LN]

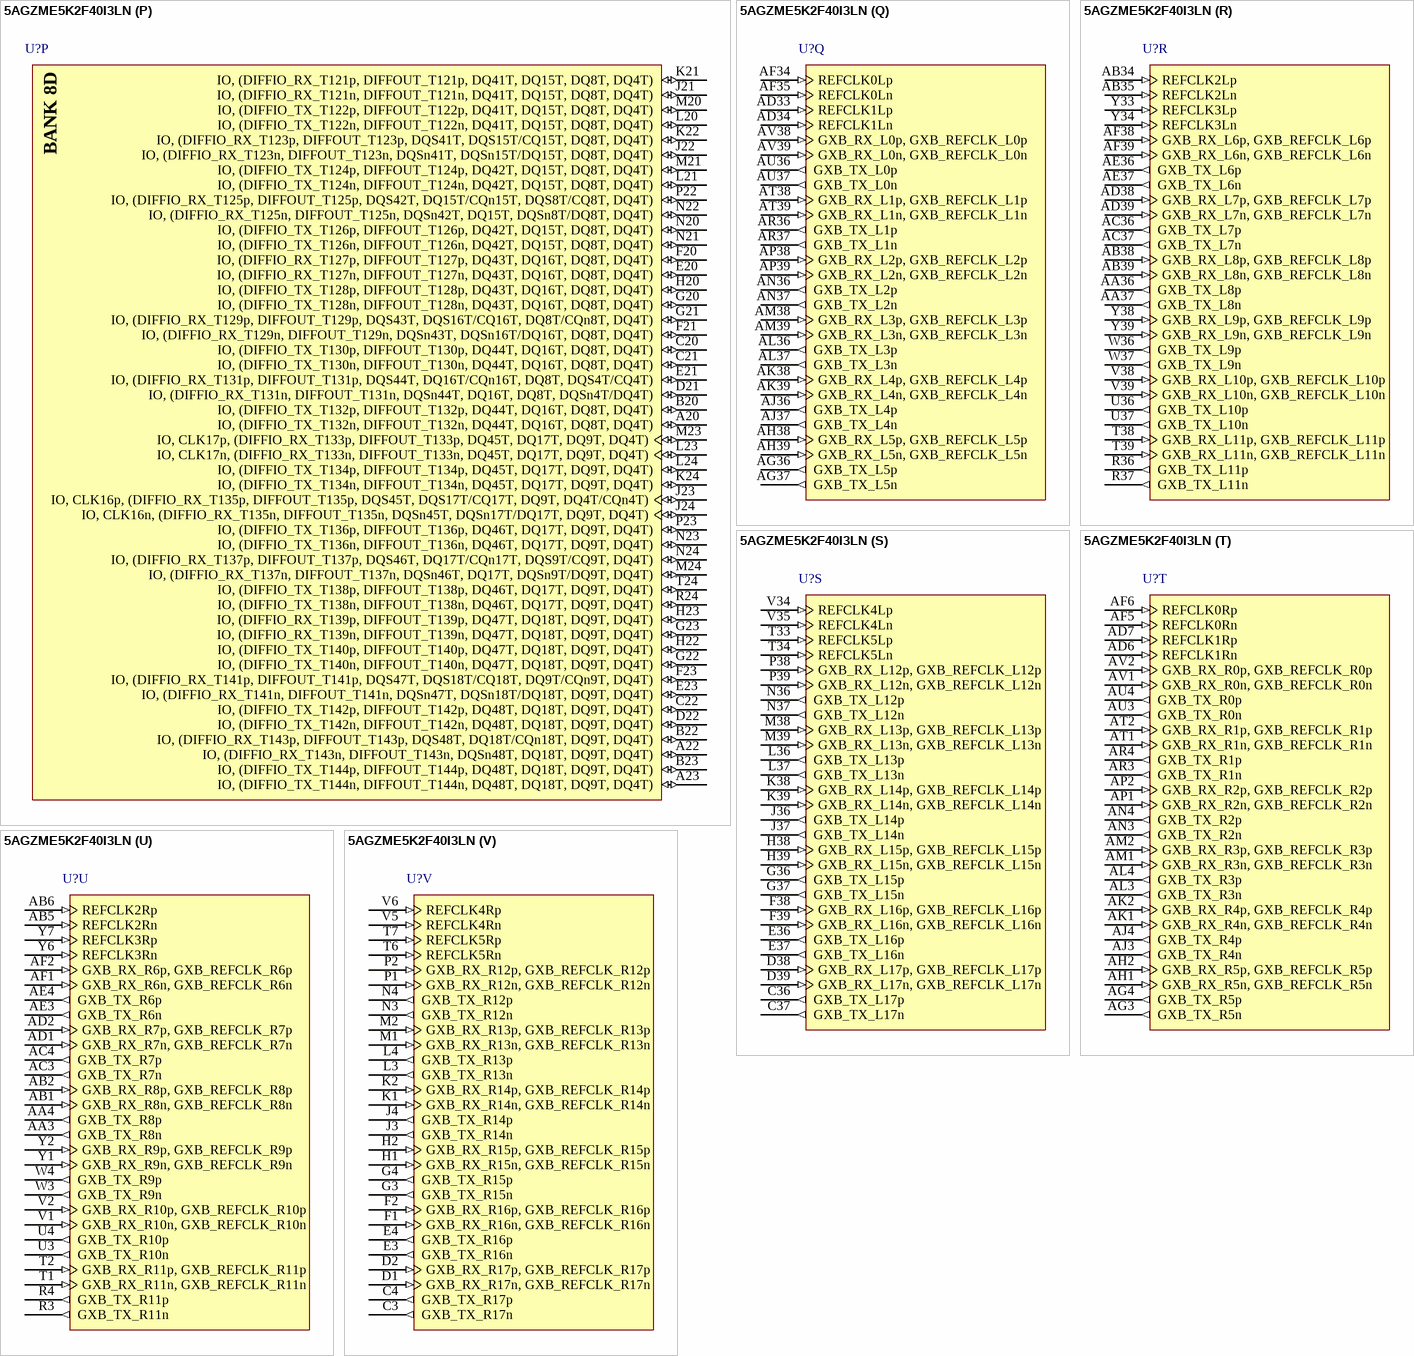
[diagram p115: symbol 5AGZME5K2F40I3LN]

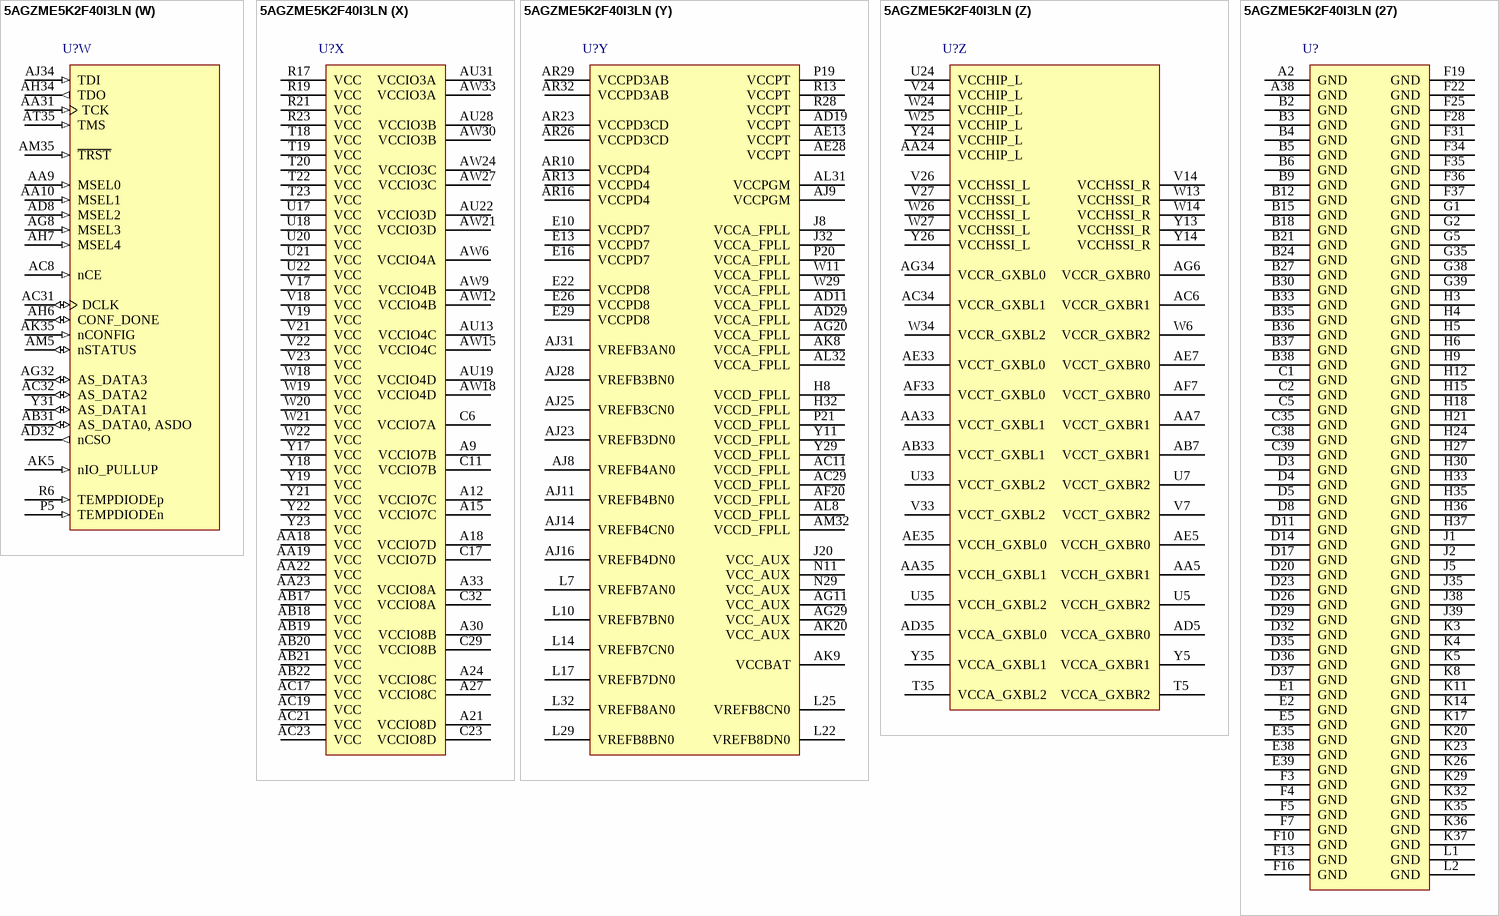
[diagram p116: symbol 5AGZME5K2F40I3LN]

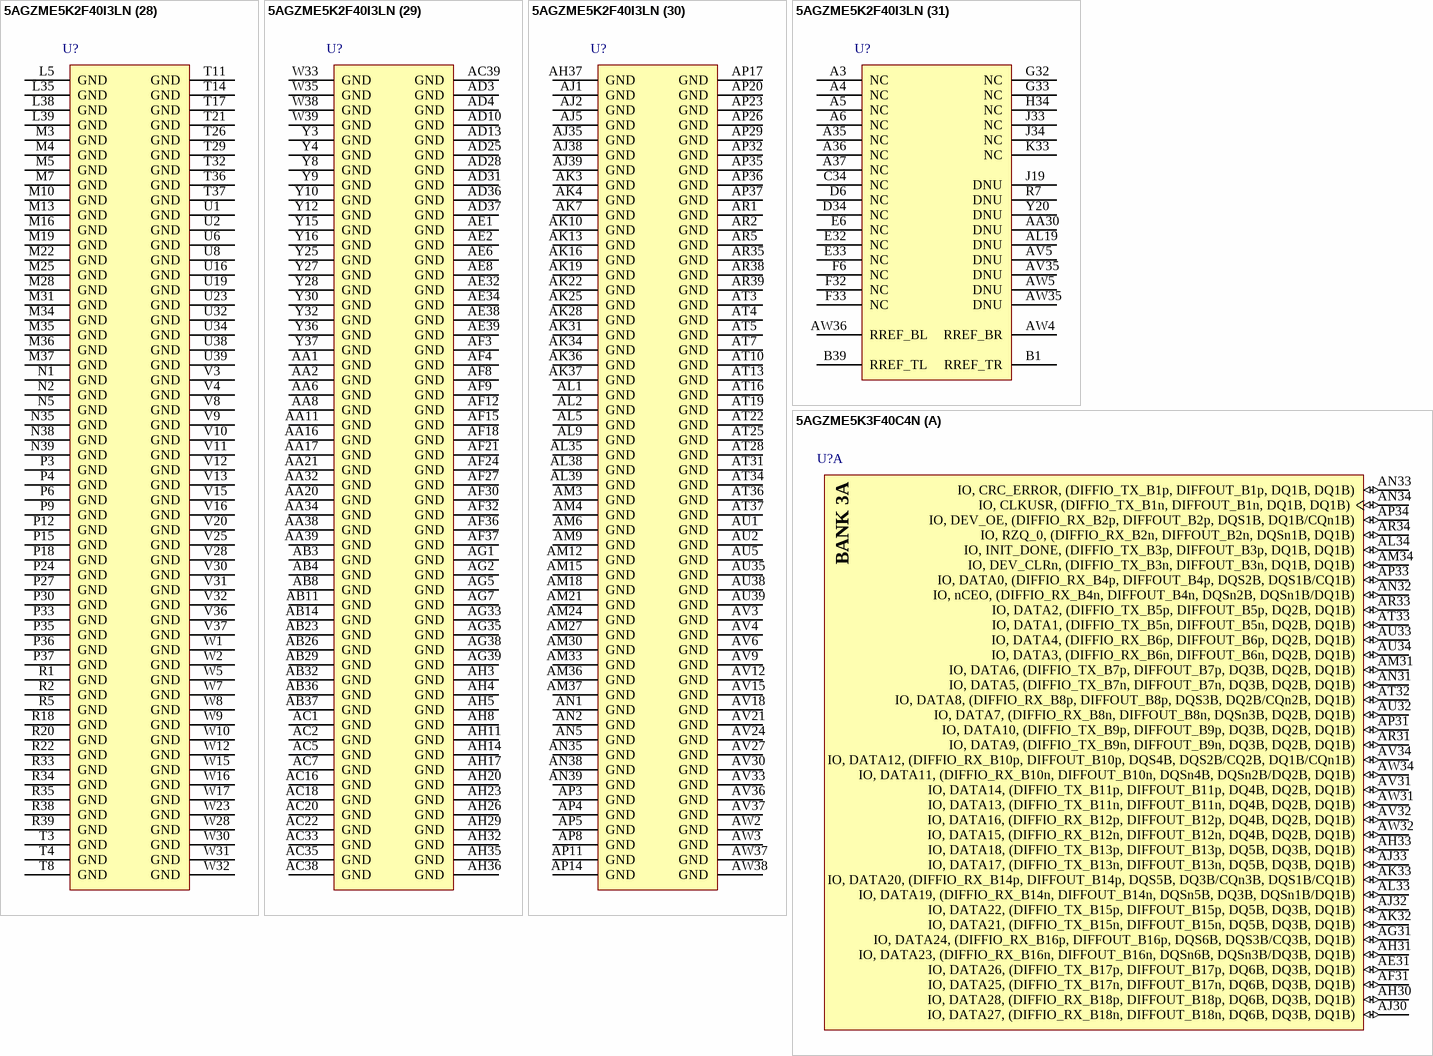
[diagram p117: symbols 5AGZME5K2F40I3LN to 5AGZME5K3F40C4N]